# Altium schematic symbol library Winbond_W25Q128JVPIQ.SchLib: 1 symbol
Pins are listed as number, name and electrical type; pins without a type are passive.

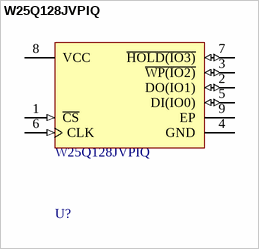
[diagram p0: symbol W25Q128JVPIQ]

## W25Q128JVPIQ
designator U?  Model: W25Q128JVPIQ  (hidden comment: *)
Manufacturer: Winbond; HelpURL: https://www.digikey.com/product-detail/en/winbond-electronics/W25Q128JVPIQ/W25Q128JVPIQ-ND/6819668; Package: WSON-8
footprint W25Q128JVPIG
pins: 1 ~{CS} (in), 2 DO(IO1) (io), 3 ~{WP(IO2)} (io), 4 GND (power), 5 DI(IO0) (io), 6 CLK (in), 7 ~{HOLD(IO3)} (io), 8 VCC (power), 9 EP